# Altium footprint library PEI_PCB_1.1.PcbLib: 310 footprints (part 15 of 20)
Each footprint in its own frame and in the unit in brackets; x right, y up, seen from the top. Pads: shape width x height; smd on the part's side, far side on the other; paste and mask are expansions set on the pad; w line width, h text height; cw(c..) or ccw(c..) is an arc to the next point about the centre after c.
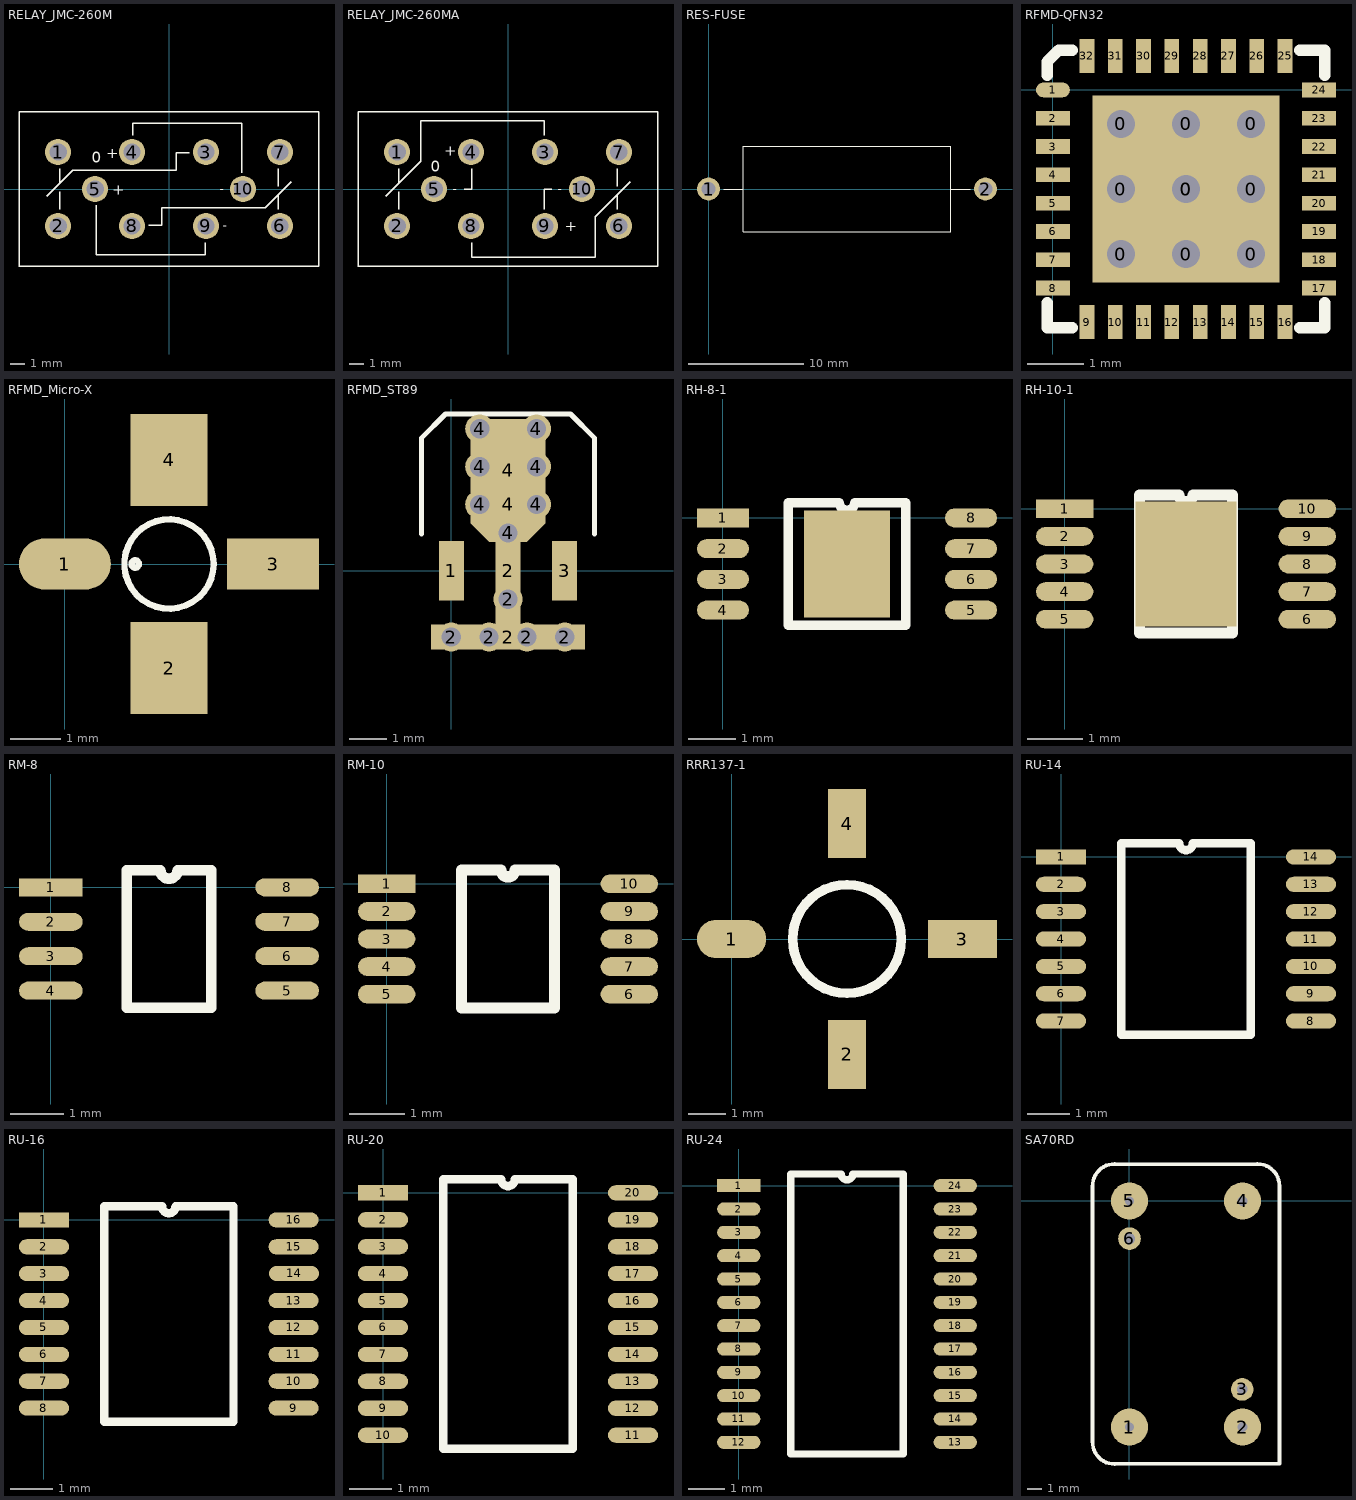
[diagram p14: the footprints below, top view; thin cyan lines are the x and y axes]

## RELAY_JMC-260M [mm]
pads (10):
  round 1.8 hole 1.2: 1(-7.62,2.54) 2(-7.62,-2.54) 3(2.54,2.54) 4(-2.54,2.54) 5(-5.08,0) 6(7.62,-2.54) 7(7.62,2.54) 8(-2.54,-2.54) 9(2.54,-2.54) 10(5.08,0)
TopOverlay:
  lines w0.1: -8.4,-0.5 -6.6,1.3 0.5,1.3 0.5,2.5 1.4,2.5 ; -7.5,-1.4 -7.5,-0.2 ; -7.5,0.4 -7.5,1.4 ; -5,-1.1 -5,-4.5 2.5,-4.5 2.5,-3.7 ; -2.5,3.7 -2.5,4.5 5,4.5 5,1.1 ; -1.4,-2.5 -0.5,-2.5 -0.5,-1.3 6.6,-1.3 8.4,0.5 ; 7.5,-1.4 7.5,-0.4 ; 7.5,0.2 7.5,1.4 ; -10.3,-5.3 10.3,-5.3 10.3,5.3 -10.3,5.3 -10.3,-5.3
  text "-" at 3.5,-0.3 h0.6
  text "-" at 3.7,-2.8 h0.6
  text "+" at -4.3,2.1 h0.76
  text "+" at -3.9,-0.4 h0.76
  text "0" at -5.3,1.8 h0.76

## RELAY_JMC-260MA [mm]
pads (10):
  round 1.8 hole 1.2: 1(-7.62,2.54) 2(-7.62,-2.54) 3(2.54,2.54) 4(-2.54,2.54) 5(-5.08,0) 6(7.62,-2.54) 7(7.62,2.54) 8(-2.54,-2.54) 9(2.54,-2.54) 10(5.08,0)
TopOverlay:
  lines w0.1: -8.4,-0.5 -6,1.9 -6,4.7 2.5,4.7 2.5,3.7 ; -7.5,-1.4 -7.5,-0.2 ; -7.5,0.4 -7.5,1.4 ; -3,0 -2.5,0 -2.5,1.4 ; -2.5,-3.7 -2.5,-4.7 6,-4.7 6,-1.9 8.4,0.5 ; 2.5,-1.4 2.5,0 3,0 ; 7.5,-1.4 7.5,-0.4 ; 7.5,0.2 7.5,1.4 ; -10.3,-5.3 10.3,-5.3 10.3,5.3 -10.3,5.3 -10.3,-5.3
  text "-" at 3.4,-0.3 h0.6
  text "-" at -3.8,-0.3 h0.6
  text "+" at -4.382,2.294 h0.76
  text "+" at 3.9,-2.9 h0.76
  text "0" at -5.3,1.2 h0.76

## RES-FUSE [mm]
pads (2):
  round 2 hole 1.2: 1(0,0) 2(24,0)
TopOverlay:
  lines w0.1: 1.3,0 3,0 ; 21,0 22.7,0 ; 3,-3.7 21,-3.7 21,3.7 3,3.7 3,-3.7

## RFMD-QFN32 [mm]
pads (42):
  round 0.8 hole 0.5: 0(1.2,-2.9) 0(1.2,-1.75) 0(1.2,-0.6) 0(2.35,-2.9) 0(2.35,-1.75) 0(2.35,-0.6) 0(3.5,-2.9) 0(3.5,-1.75) 0(3.5,-0.6)
  rect 3.3x3.3 smd: 0(2.35,-1.75)
  oval 0.6x0.26 smd: 1(0,0)
  rect 0.6x0.26 smd: 2(0,-0.5) 3(0,-1) 4(0,-1.5) 5(0,-2) 6(0,-2.5) 7(0,-3) 8(0,-3.5) 17(4.7,-3.5) 18(4.7,-3) 19(4.7,-2.5) 20(4.7,-2) 21(4.7,-1.5) 22(4.7,-1) 23(4.7,-0.5) 24(4.7,0)
  rect 0.26x0.6 smd: 9(0.6,-4.1) 10(1.1,-4.1) 11(1.6,-4.1) 12(2.1,-4.1) 13(2.6,-4.1) 14(3.1,-4.1) 15(3.6,-4.1) 16(4.1,-4.1) 25(4.1,0.6) 26(3.6,0.6) 27(3.1,0.6) 28(2.6,0.6) 29(2.1,0.6) 30(1.6,0.6) 31(1.1,0.6) 32(0.6,0.6)
TopOverlay:
  lines w0.2: -0.1,-3.76 -0.1,-4.2 0.34,-4.2 ; -0.1,0.26 -0.1,0.5 0.1,0.7 0.34,0.7 ; 4.36,-4.2 4.8,-4.2 4.8,-3.76 ; 4.36,0.7 4.8,0.7 4.8,0.26

## RFMD_Micro-X [mil]
pads (4):
  oval 72x40 smd: 1(0,0)
  rect 60x72 smd: 2(81.5,-81.5) 4(81.5,81.5)
  rect 72x40 smd: 3(163,0)
TopOverlay:
  circle w5: c81.5,0 r35
  circle w5: c55,0 r2.83

## RFMD_ST89 [mil]
pads (18):
  rect 26x62 smd: 1(0,0) 3(118,0)
  round 30 hole 20: 2(0,-68.9) 2(39.37,-68.9) 2(59.06,-29.53) 2(78.74,-68.9) 2(118.11,-68.9) 4(29.53,68.9) 4(29.53,108.27) 4(29.53,147.64) 4(59.06,39.37) 4(88.58,68.9) 4(88.58,108.27) 4(88.58,147.64)
  rect 26x160 smd: 2(59,0)
  rect 160x26 smd: 2(59.06,-68.95)
  oct 78x78 smd: 4(59,69)
  rect 78x107 smd: 4(59,104.5)
TopOverlay:
  lines w5: -31,38 -31,138 -6,163 6,163 124,163 149,138 149,38

## RH-8-1 [mm]
pads (9):
  rect 1.1x0.4 smd: 1(0,0)
  oval 1.1x0.4 smd: 2(0,-0.65) 3(0,-1.3) 4(0,-1.95) 5(5.25,-1.95) 6(5.25,-1.3) 7(5.25,-0.65) 8(5.25,0)
  rect 1.83x2.26 smd: ""(2.625,-0.975)
TopOverlay:
  lines w0.2: 1.385,-2.275 1.385,0.325 2.463,0.325 ccw(c2.625,0.325) 2.787,0.325 3.865,0.325 3.865,-2.275 1.385,-2.275

## RH-10-1 [mm]
pads (11):
  rect 1.04x0.34 smd: 1(0,0)
  oval 1.04x0.34 smd: 2(0,-0.5) 3(0,-1) 4(0,-1.5) 5(0,-2) 6(4.4,-2) 7(4.4,-1.5) 8(4.4,-1) 9(4.4,-0.5) 10(4.4,0)
  rect 1.83x2.27 smd: ""(2.2,-1)
TopOverlay:
  lines w0.2: 1.355,-2.25 1.355,0.25 2.075,0.25 ccw(c2.2,0.25) 2.325,0.25 3.045,0.25 3.045,-2.25 1.355,-2.25

## RM-8 [mm]
pads (8):
  rect 1.2x0.34 smd: 1(0,0)
  oval 1.2x0.34 smd: 2(0,-0.65) 3(0,-1.3) 4(0,-1.95) 5(4.46,-1.95) 6(4.46,-1.3) 7(4.46,-0.65) 8(4.46,0)
TopOverlay:
  lines w0.2: 1.435,-2.275 1.435,0.325 2.068,0.325 ccw(c2.23,0.325) 2.393,0.325 3.025,0.325 3.025,-2.275 1.435,-2.275

## RM-10 [mm]
pads (10):
  rect 1.04x0.34 smd: 1(0,0)
  oval 1.04x0.34 smd: 2(0,-0.5) 3(0,-1) 4(0,-1.5) 5(0,-2) 6(4.4,-2) 7(4.4,-1.5) 8(4.4,-1) 9(4.4,-0.5) 10(4.4,0)
TopOverlay:
  lines w0.2: 1.355,-2.25 3.045,-2.25 3.045,0.25 2.325,0.25 cw(c2.2,0.25) 2.075,0.25 1.355,0.25 1.355,-2.25

## RRR137-1 [mil]
pads (4):
  oval 72x40 smd: 1(0,0)
  rect 40x72 smd: 2(120,-120) 4(120,120)
  rect 72x40 smd: 3(240,0)
TopOverlay:
  circle w10: c120,0 r56.57

## RU-14 [mm]
pads (14):
  rect 1.19x0.36 smd: 1(0,0)
  oval 1.19x0.36 smd: 2(0,-0.65) 3(0,-1.3) 4(0,-1.95) 5(0,-2.6) 6(0,-3.25) 7(0,-3.9) 8(5.94,-3.9) 9(5.94,-3.25) 10(5.94,-2.6) 11(5.94,-1.95) 12(5.94,-1.3) 13(5.94,-0.65) 14(5.94,0)
TopOverlay:
  lines w0.2: 1.43,-4.225 4.51,-4.225 4.51,0.325 3.133,0.325 cw(c2.97,0.325) 2.807,0.325 1.43,0.325 1.43,-4.225

## RU-16 [mm]
pads (16):
  rect 1.19x0.36 smd: 1(0,0)
  oval 1.19x0.36 smd: 2(0,-0.64) 3(0,-1.28) 4(0,-1.92) 5(0,-2.56) 6(0,-3.2) 7(0,-3.84) 8(0,-4.48) 9(5.94,-4.48) 10(5.94,-3.84) 11(5.94,-3.2) 12(5.94,-2.56) 13(5.94,-1.92) 14(5.95,-1.275) 15(5.94,-0.64) 16(5.94,0)
TopOverlay:
  lines w0.2: 1.43,-4.8 4.51,-4.8 4.51,0.32 3.13,0.32 cw(c2.97,0.32) 2.81,0.32 1.43,0.32 1.43,-4.8

## RU-20 [mm]
pads (20):
  rect 1.19x0.36 smd: 1(0,0)
  oval 1.19x0.36 smd: 2(0,-0.64) 3(0,-1.28) 4(0,-1.92) 5(0,-2.56) 6(0,-3.2) 7(0,-3.84) 8(0,-4.48) 9(0,-5.12) 10(0,-5.76) 11(5.94,-5.76) 12(5.94,-5.12) 13(5.94,-4.48) 14(5.94,-3.84) 15(5.94,-3.2) 16(5.94,-2.56) 17(5.94,-1.92) 18(5.94,-1.28) 19(5.94,-0.64) 20(5.94,0)
TopOverlay:
  lines w0.2: 1.43,-6.08 1.43,0.32 2.81,0.32 ccw(c2.97,0.32) 3.13,0.32 4.51,0.32 4.51,-6.08 1.43,-6.08

## RU-24 [mm]
pads (24):
  rect 1.19x0.36 smd: 1(0,0)
  oval 1.19x0.36 smd: 2(0,-0.64) 3(0,-1.28) 4(0,-1.92) 5(0,-2.56) 6(0,-3.2) 7(0,-3.84) 8(0,-4.48) 9(0,-5.12) 10(0,-5.76) 11(0,-6.4) 12(0,-7.04) 13(5.94,-7.04) 14(5.94,-6.4) 15(5.94,-5.76) 16(5.94,-5.12) 17(5.94,-4.48) 18(5.94,-3.84) 19(5.94,-3.2) 20(5.94,-2.56) 21(5.94,-1.92) 22(5.94,-1.28) 23(5.94,-0.64) 24(5.94,0)
TopOverlay:
  lines w0.2: 1.43,-7.36 1.43,0.32 2.81,0.32 ccw(c2.97,0.32) 3.13,0.32 4.51,0.32 4.51,-7.36 1.43,-7.36

## SA70RD [mm]
pads (6):
  round 2.5 hole 0.6: 1(0,-15.24) 5(0,0)
  round 2.5 hole 0.7: 2(7.62,-15.24) 4(7.62,0)
  round 1.524 hole 0.7: 3(7.6,-12.7)
  round 1.524 hole 0.762: 6(0,-2.54)
TopOverlay:
  lines w0.254: -1,-17.73 cw(c-1.016,-16.256) -2.49,-16.23 -2.49,0.99 cw(c-1.016,1.016) -1,2.49 ; -1,-17.72 10.11,-17.72 10.11,0.99 ; -1,2.48 8.62,2.48 ; 8.62,2.49 cw(c8.636,1.016) 10.11,1.016